# EAGLE library part LED_TACT_SWITCH (library thanics_robotics)
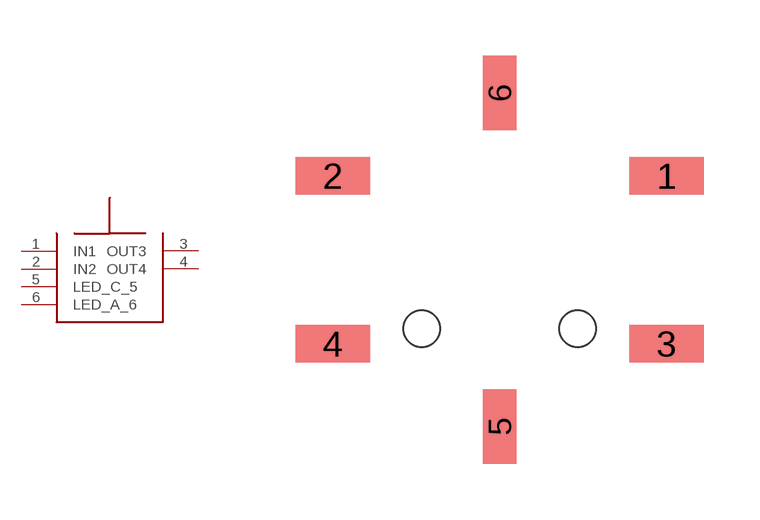
[diagram p5: symbol with the pads of LED_TACT_SWITCH; footprint LED_TACT_SWITCH]

Designator prefix -

## LED_TACT_SWITCH  [LED_TACT_SWITCH]
1  IN1
2  IN2
3  OUT3
4  OUT4
5  LED_C_5
6  LED_A_6

## Footprint LED_TACT_SWITCH (pad centres in mm)
smd 1.999 x 1.001: 1 4.496,2.261; 2 -4.496,2.261; 3 4.496,-2.261; 4 -4.496,-2.261
smd 0.889 x 1.999: 5 0,-4.496; 6 0,4.496
hole 0.991 at -2.095,-1.854
hole 0.991 at 2.095,-1.854